# Altium schematic symbol library SCH - MISC - DIP-SW-4p.SCHLIB: 1 symbol
Pins are listed as number, name and electrical type; pins without a type are passive.

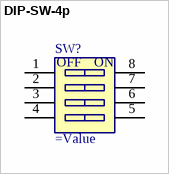
[diagram p0: symbol DIP-SW-4p]

## DIP-SW-4p
designator SW?
DIP-/SIP Switches 4p SMT 1.27mm
pins: 1, 2, 3, 4, 5, 6, 7, 8
text: OFF; ON